# EAGLE library part MAX4395EUD (library tms-rgb)
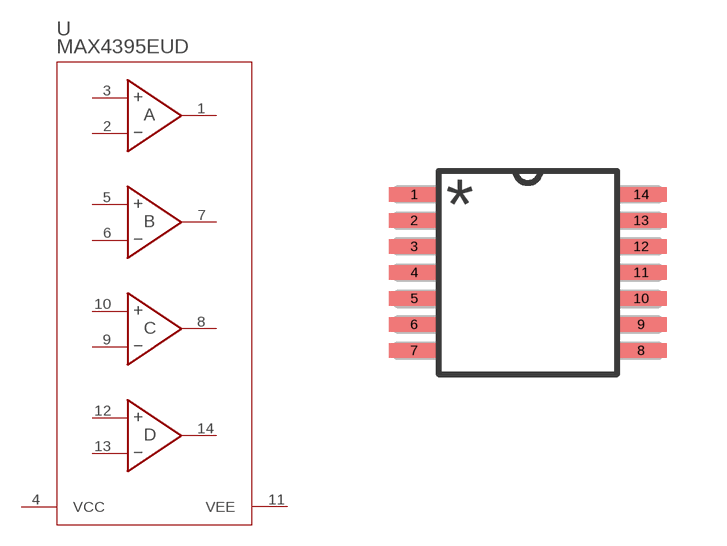
[diagram p1: symbol with the pads of MAX4395; footprint MAX4395]

Designator prefix U

## MAX4395EUD (BUILT_BY: EMA_UL_Team; MANUFACTURER_PART_NUMBER: max4395eud+; SOURCELIBRARY: Maxim_2014-06-20; VENDOR: Maxim Integrated Products)  [MAX4395]
1  A  out
2  A-  in
3  A+  in
4  VCC  pwr
5  B+  in
6  B-  in
7  B  out
8  C  out
9  C-  in
10  C+  in
11  VEE  pwr
12  D+  in
13  D-  in
14  D  out

## Footprint MAX4395 (pad centres in mm)
smd 1.283 x 0.356: 1 -2.838,1.95; 2 -2.838,1.3; 3 -2.838,0.65; 4 -2.838,0; 5 -2.838,-0.65; 6 -2.838,-1.3; 7 -2.838,-1.95; 8 2.838,-1.95; 9 2.838,-1.3; 10 2.838,-0.65; 11 2.838,0; 12 2.838,0.65; 13 2.838,1.3; 14 2.838,1.95